# Altium schematic symbol library Schlib2.SchLib: 2 symbols
Pins are listed as number, name and electrical type; pins without a type are passive.

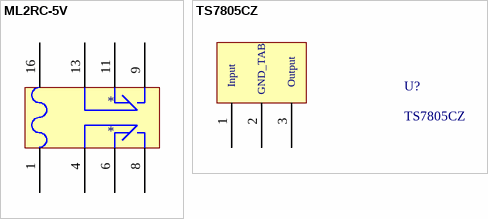
[diagram p0: symbols ML2RC-5V to TS7805CZ]

## ML2RC-5V
designator *
Relê 2 contatos reversíveis bifurcados
footprint ML2RC-5V
pins: 1, 4, 6, 8, 9, 11, 13, 16

## TS7805CZ
designator U?
Linear Voltage Regulator, Fixed, Positive Output, 35 V, 5 V, 1.5 A, 3 Pins, TO-220; Manufacturer: STMicroelectronics; Manufacturer Part Number: L7805CV; Dropout Voltage: 2V; Max Supply Voltage: 25V; Max Junction Temperature (Tj): 125°C; Max Output current: 1.5A; Min Input Voltage: 7V; Min Output Voltage: 4.65V; Nominal Output Voltage: 5V; Number of Channels: 1; Power Supply Rejection Ratio (PSRR): 62dB; Quiescent Current: 8mA; Tolerance: 5%; Supplier: Avnet; Supplier Part Number: L7805CV; RoHS: Compliant; Category: Voltage Regulators - Linear; Stock: 15085; Pricing: 1=0,41797, 2=0,2691, 4=0,26772, 8=0,26634, 16=0,16896 (USD); Case/Package: TO-220; China RoHS: Non-Compliant; Contact Plating: Gold; Height: 9.15mm; Height - Seated (Max): 19.68mm; Lead Free: Lead Free; Length: 10.2mm; Lifecycle Status: Production; Max Operating Temperature: 125°C; Min Operating Temperature: -40°C; Mounting Technology: Through Hole; Number of Circuits: 1; Number of Outputs: 1; Pins: 3; Number of Regulators: 1; Number of Terminals: 3; Output Current: 1.5A; Output Type: Fixed; Output Voltage: 5V; Polarity: Positive; Radiation Hardening: No; REACH SVHC: No; Schedule B: 8542390000, 8542390000|8542390000|8542390000|8542390000|8542390000|8542390000|8542390000|8542390000|8542390000|8542390000|8542390000|8542390000|8542390000|8542390000|8542390000|8542390000|8542390000|8542390000|8542390000|8542390000|8542390000, 8542390000|8542390000|8542390000|8542390000|8542390000|8542390000|8542390000|8542390000|8542390000|8542390000|8542390000|8542390000|8542390000|8542390000|8542390000|8542390000|8542390000|8542390000|8542390000|8542390000|8542390000|8542390000, 8542390000|8542390000|8542390000|8542390000|8542390000|8542390000|8542390000|8542390000|8542390000|8542390000|8542390000|8542390000|8542390000|8542390000|8542390000|8542390000|8542390000|8542390000|8542390000|8542390000|8542390000|8542390000|8542390000; Terminal Pitch: 2.54mm; Voltage Tolerance: 5%; Weight: 2.299997g; Width: 4.5mm; ComponentLink1URL: https://datasheet.octopart.com:443/L7805CV-STMicroelectronics-datasheet-136036604.pdf?src-supplier=ODG+(Origin+Data+Global); ComponentLink1Description: https://datasheet.octopart.com:443/L7805CV-STMicroelectronics-datasheet-136036604.pdf?src-supplier=ODG+(Origin+Data+Global); ComponentLink2URL: https://datasheet.octopart.com:443/L7805CV-STMicroelectronics-datasheet-73860655.pdf?src-supplier=Farnell; ComponentLink2Description: https://datasheet.octopart.com:443/L7805CV-STMicroelectronics-datasheet-73860655.pdf?src-supplier=Farnell; ComponentLink3URL: https://datasheet.octopart.com:443/L7805CV-STMicroelectronics-datasheet-14717135.pdf?src-supplier=Farnell; ComponentLink3Description: https://datasheet.octopart.com:443/L7805CV-STMicroelectronics-datasheet-14717135.pdf?src-supplier=Farnell; ComponentLink4URL: https://datasheet.octopart.com:443/L7805CV-STMicroelectronics-datasheet-108470.pdf?src-supplier=Farnell; ComponentLink4Description: https://datasheet.octopart.com:443/L7805CV-STMicroelectronics-datasheet-108470.pdf?src-supplier=Farnell; ComponentLink5URL: https://datasheet.octopart.com:443/L7805CV-STMicroelectronics-datasheet-25360458.pdf?src-supplier=element14+APAC; ComponentLink5Description: https://datasheet.octopart.com:443/L7805CV-STMicroelectronics-datasheet-25360458.pdf?src-supplier=element14+APAC; ComponentLink6URL: https://datasheet.octopart.com:443/L7805CV-STMicroelectronics-datasheet-62333080.pdf?src-supplier=element14+APAC; ComponentLink6Description: https://datasheet.octopart.com:443/L7805CV-STMicroelectronics-datasheet-62333080.pdf?src-supplier=element14+APAC; ComponentLink7URL: https://datasheet.octopart.com:443/L7805CV-STMicroelectronics-datasheet-5316848.pdf?src-supplier=Factory+Futures; ComponentLink7Description: https://datasheet.octopart.com:443/L7805CV-STMicroelectronics-datasheet-5316848.pdf?src-supplier=Factory+Futures; ComponentLink8URL: https://datasheet.octopart.com:443/L7805CV-STMicroelectronics-datasheet-11003276.pdf?src-supplier=Factory+Futures; ComponentLink8Description: https://datasheet.octopart.com:443/L7805CV-STMicroelectronics-datasheet-11003276.pdf?src-supplier=Factory+Futures; ComponentLink9URL: https://datasheet.octopart.com:443/L7805CV-STMicroelectronics-datasheet-12510217.pdf?src-supplier=Factory+Futures; ComponentLink9Description: https://datasheet.octopart.com:443/L7805CV-STMicroelectronics-datasheet-12510217.pdf?src-supplier=Factory+Futures; ComponentLink10URL: https://datasheet.octopart.com:443/L7805CV-STMicroelectronics-datasheet-10835933.pdf?src-supplier=Factory+Futures; ComponentLink10Description: https://datasheet.octopart.com:443/L7805CV-STMicroelectronics-datasheet-10835933.pdf?src-supplier=Factory+Futures; ComponentLink11URL: https://datasheet.octopart.com:443/L7805CV-STMicroelectronics-datasheet-10550045.pdf?src-supplier=Factory+Futures; ComponentLink11Description: https://datasheet.octopart.com:443/L7805CV-STMicroelectronics-datasheet-10550045.pdf?src-supplier=Factory+Futures; ComponentLink12URL: https://datasheet.octopart.com:443/L7805CV-STMicroelectronics-datasheet-10406743.pdf?src-supplier=Factory+Futures; ComponentLink12Description: https://datasheet.octopart.com:443/L7805CV-STMicroelectronics-datasheet-10406743.pdf?src-supplier=Factory+Futures; ComponentLink13URL: https://datasheet.octopart.com:443/L7805CV-STMicroelectronics-datasheet-10082731.pdf?src-supplier=Factory+Futures; ComponentLink13Description: https://datasheet.octopart.com:443/L7805CV-STMicroelectronics-datasheet-10082731.pdf?src-supplier=Factory+Futures; ComponentLink14URL: https://datasheet.octopart.com:443/L7805CV-STMicroelectronics-datasheet-180738849.pdf?src-supplier=IHS; ComponentLink14Description: https://datasheet.octopart.com:443/L7805CV-STMicroelectronics-datasheet-180738849.pdf?src-supplier=IHS; ComponentLink15URL: https://datasheet.octopart.com:443/L7805CV-STMicroelectronics-datasheet-62333152.pdf?src-supplier=STMicroelectronics; ComponentLink15Description: https://datasheet.octopart.com:443/L7805CV-STMicroelectronics-datasheet-62333152.pdf?src-supplier=STMicroelectronics; ComponentLink16URL: https://datasheet.octopart.com:443/L7805C-V-STMicroelectronics-datasheet-8494008.pdf?src-supplier=Future+Electronics; ComponentLink16Description: https://datasheet.octopart.com:443/L7805C-V-STMicroelectronics-datasheet-8494008.pdf?src-supplier=Future+Electronics; ComponentLink17URL: https://datasheet.octopart.com:443/L7805CV-STMicroelectronics-datasheet-8464528.pdf?src-supplier=Future+Electronics; ComponentLink17Description: https://datasheet.octopart.com:443/L7805CV-STMicroelectronics-datasheet-8464528.pdf?src-supplier=Future+Electronics; ComponentLink18URL: https://datasheet.octopart.com:443/L7805CV-STMicroelectronics-datasheet-109553.pdf?src-supplier=element14; ComponentLink18Description: https://datasheet.octopart.com:443/L7805CV-STMicroelectronics-datasheet-109553.pdf?src-supplier=element14; ComponentLink19URL: https://datasheet.octopart.com:443/L7805CV-STMicroelectronics-datasheet-5578.pdf?src-supplier=Newark; ComponentLink19Description: https://datasheet.octopart.com:443/L7805CV-STMicroelectronics-datasheet-5578.pdf?src-supplier=Newark; ComponentLink20URL: https://datasheet.octopart.com:443/L7805CV-STMicroelectronics-datasheet-61038.pdf?src-supplier=SOS+electronic; ComponentLink20Description: https://datasheet.octopart.com:443/L7805CV-STMicroelectronics-datasheet-61038.pdf?src-supplier=SOS+electronic; ComponentLink21URL: https://datasheet.octopart.com:443/L7805CV-STMicroelectronics-datasheet-14169698.pdf?src-supplier=iiiC; ComponentLink21Description: https://datasheet.octopart.com:443/L7805CV-STMicroelectronics-datasheet-14169698.pdf?src-supplier=iiiC; ComponentLink22URL: https://datasheet.octopart.com:443/L7805CV-STMicroelectronics-datasheet-11554490.pdf?src-supplier=Arrow+Electronics; ComponentLink22Description: https://datasheet.octopart.com:443/L7805CV-STMicroelectronics-datasheet-11554490.pdf?src-supplier=Arrow+Electronics; ComponentLink23URL: https://datasheet.octopart.com:443/L7805CV-STMicroelectronics-datasheet-9642343.pdf?src-supplier=RS+(Formerly+Allied+Electronics); ComponentLink23Description: https://datasheet.octopart.com:443/L7805CV-STMicroelectronics-datasheet-9642343.pdf?src-supplier=RS+(Formerly+Allied+Electronics); ComponentLink24URL: https://datasheet.octopart.com:443/L7805CV-STMicroelectronics-datasheet-7264666.pdf?src-supplier=Jameco; ComponentLink24Description: https://datasheet.octopart.com:443/L7805CV-STMicroelectronics-datasheet-7264666.pdf?src-supplier=Jameco; ComponentLink25URL: https://datasheet.octopart.com:443/L7805CV-STMicroelectronics-datasheet-154404753.pdf?src-supplier=Jameco; ComponentLink25Description: https://datasheet.octopart.com:443/L7805CV-STMicroelectronics-datasheet-154404753.pdf?src-supplier=Jameco
footprint TS7805CZ-TO220
pins: 1, 2, 3
text: Input; Output; GND_TAB